# Altium integrated library 0603WAF2204T5E.IntLib: 1 symbol
Pins are listed as number, name and electrical type; pins without a type are passive.

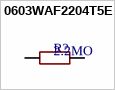
[diagram p0: symbol 0603WAF2204T5E]

## 0603WAF2204T5E
designator R?  value 2.2MO  (hidden comment: 0603WAF2204T5E)
Resistors. -55C~+155C 100mW 2.2Mohm 75V Thick Film Resistor +/-1% +/-100ppm/C 0603 Chip Resistor - Surface Mount ROHS; Manufacturer: UNI-ROYAL(Uniroyal Elec); Component Type: Resistors; Design Item ID: 0603WAF2204T5E; JLCPCB Part #: C22938; Manufacturer Part Number: 0603WAF2204T5E
footprint 0603WAF2204T5E (R0603)
pins: 1, 2